# Altium footprint library TE 1-1734839-0.PcbLib: 1 footprints
Each footprint in its own frame and in the unit in brackets; x right, y up, seen from the top. Pads: shape width x height; smd on the part's side, far side on the other; paste and mask are expansions set on the pad; w line width, h text height; cw(c..) or ccw(c..) is an arc to the next point about the centre after c.
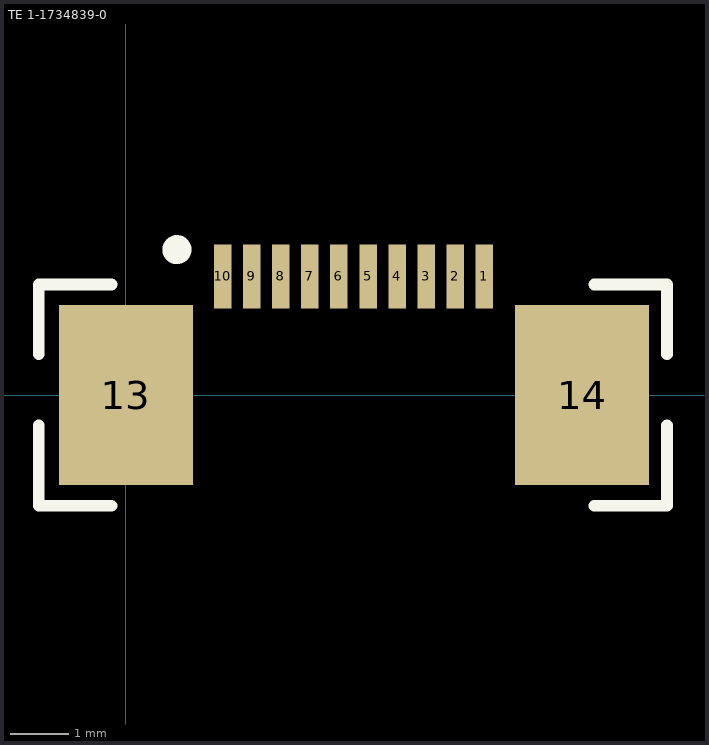
[diagram p0: the footprint, top view; thin cyan lines are the x and y axes]

## TE 1-1734839-0 [mm] "10 pin FFC top contact"
height 2
pads (12):
  rect 0.3x1.1 smd: 1(6.161,2.043) 2(5.661,2.043) 3(5.161,2.043) 4(4.661,2.043) 5(4.161,2.043) 6(3.661,2.043) 7(3.161,2.043) 8(2.661,2.043) 9(2.161,2.043) 10(1.661,2.043)
  rect 2.3x3.1 smd: 13(0,0) 14(7.84,0)
TopOverlay:
  circle w0.25: c0.875,2.5 r0.125
  lines w0.2: -1.5,-0.519 -1.5,-1.9 -0.25,-1.9 ; -1.5,0.7 -1.5,1.9 -0.25,1.9 ; 8.05,-1.9 9.3,-1.9 9.3,-0.519 ; 8.05,1.9 9.3,1.9 9.3,0.7
3D body: height 2, standoff -0.05, extent -1.305,-2.905 9.125,2.205